# EAGLE library part 7508110329 (library WE-OLTI)
WE-OLTI Offline Flyback Transformers Characteristics Nominal input voltage: 85–265 VAC (120–375 VDC) Small size Low leakage inductance Multiple-output options Operating temperature: −40 °C to +125 °C Isolation Voltage: 2 kVAC to 5 kVAC Options for fixed frequency or quasi-resonant mode operation Most products meet reinforced insulation Applications Industrial controls USB chargers Utility metering devices Process controls Factory automation Security systems Garage door opener auxiliary supplies Home appliances Especially designed for several ICs from Texas Instruments <https://www.we-online.com/components/media/o814034v209%20UtOLTI%20Group%20CGI.jpg> Details see: www.we-online.com/en/components/products/WE-OLTI <www.we-online.com/catalog/WE-OLTI/?utm_source=eagle_model&utm_medium=description_link&utm_campaign=eisos_eagle> Created by Ella Wu 2025-02-06 2025 (C) Wurth Elektronik
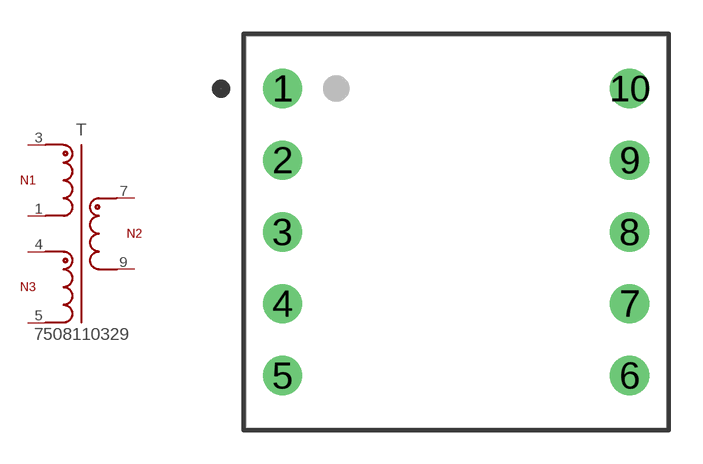
[diagram p15: symbol with the pads of WE-OLTI_EE16/7/5_L18.8W17.5H14.2; footprint WE-OLTI_EE16/7/5_L18.8W17.5H14.2]

Designator prefix T

## 7508110329 (DATASHEET-URL: https://www.we-online.com/redexpert/spec/7508110329?ae; FSWITCH: 130kHz; HEIGHT: 17.5mm; IOUT1: 340mA; ISAT: 0.575A; L: 700uH; LENGTH: 17.5mm; MOUNT: THT; N: 6.6:1:1; PART-NUMBER: 7508110329; SIZE: EE16/7/5; VALUE: 700uH; VAUX: 15V; VIN: 70 - 265 V (AC); VOUT1: 15V; VT: 4000V(AC); WIDTH: 18.8mm)  [WE-OLTI_EE16/7/5_L18.8W17.5H14.2]
1  P2  pas
3  P1  pas
4  A1  pas
5  A2  pas
7  S1  pas
9  S2  pas

## Footprint WE-OLTI_EE16/7/5_L18.8W17.5H14.2 (pad centres in mm)
WE-OLTI Offline Flyback Transformers Size: EE16/7/5,THT,10pins LXWXH=18.8X17.5X14.2mm Bobbin: 070-5472
drill 1.17: 1 -7.75,6.4; 2 -7.75,3.2; 3 -7.75,0; 4 -7.75,-3.2; 5 -7.75,-6.4; 6 7.75,-6.4; 7 7.75,-3.2; 8 7.75,0; 9 7.75,3.2; 10 7.75,6.4